# Altium schematic symbol library TCKE812NA_RF.SchLib: 1 symbol
Pins are listed as number, name and electrical type; pins without a type are passive.

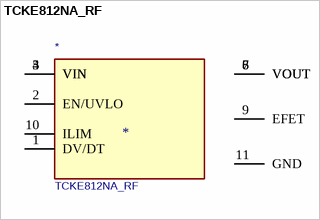
[diagram p0: symbol TCKE812NA_RF]

## TCKE812NA_RF
designator *  value TCKE812NA_RF
\n                        \n                            Fuse IC with Adjustable Over Current Protection and Reverse Current Blocking FET Control\n                        \n; MF: Toshiba Semiconductor and Storage; MP: TCKE812NA,RF; Footprint: TCKE812NA_RF:IC_TCKE812NA_RF; MAXIMUM_PACKAGE_HEIGHT: 0.75mm; Package: WFDFN-10 Toshiba Semiconductor and Storage; Price: None; Check_prices: https://www.snapeda.com/parts/TCKE812NA,RF/Toshiba/view-part/?ref=eda; STANDARD: Manufacturer Recommendations; PARTREV: 9.0; SnapEDA_Link: https://www.snapeda.com/parts/TCKE812NA,RF/Toshiba/view-part/?ref=snap; Description_: \n                        \n                            Fuse IC with Adjustable Over Current Protection and Reverse Current Blocking FET Control\n                        \n; Availability: In Stock; MANUFACTURER: Toshiba Semiconductor and Storage
footprint IC_TCKE812NA_RF
pins: 1 DV/DT, 2 EN/UVLO, 3 VIN, 4 VIN, 5 VIN, 6 VOUT, 7 VOUT, 8 VOUT, 9 EFET, 10 ILIM, 11 GND